# Altium schematic symbol library mikroBUS_socket_standard.SchLib: 1 symbol
Pins are listed as number, name and electrical type; pins without a type are passive.

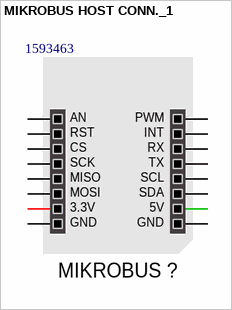
[diagram p0: symbol MIKROBUS HOST CONN._1]

## MIKROBUS HOST CONN._1
designator MIKROBUS ?, comment Supplier Part Number 1: 1593463  (hidden comment: MIKROBUS HOST CONN.)
mikroBUS Host Socket; Manufacturer 1: Multicomp; Manufacturer Part Number 1: 2212S-08SG-85; Description: MULTICOMP         2212S-08SG-85            Board-To-Board Connector, 2212S Series, Through Hole, Receptacle, 8 Contacts, 2.54 mm; Gender: Receptacle; Number of Contacts: 8; Insulation Resistance: 1GR; SMD: No; Supplier 1: Farnell; Stock 1: 60017; Pricing 1: 15=0,18900, 150=0,13900, 500=0,12000, 1000=0,09780, 1500=0,09440, 5000=0,09090, 10000=0,08730, 20000=0,08380 (EUR); RoHS: Yes; Mount: Through Hole; Weight: 0.11lb; Contact Plating: Gold; Contact Material: Copper Alloy; Number of Rows: 1; Termination: Through Hole; Length: 0.83inch; Height: 0.35inch; Width: 0.12inch; REACH SVHC: No SVHC; Flammability Rating: UL94 V-0; ComponentLink1URL: https://datasheet.ciiva.com/1434/1662126-1434005.pdf?src-supplier=Element14; ComponentLink1Description: https://datasheet.ciiva.com/1434/1662126-1434005.pdf?src-supplier=Element14
footprint MIKROBUS HOST CONN.
pins: 1 AN, 2 RST, 3 CS, 4 SCK, 5 MISO, 6 MOSI, 7 3.3V, 8 GND, 9 GND, 10 5V, 11 SDA, 12 SCL, 13 TX, 14 RX, 15 INT, 16 PWM